# Altium schematic symbol library WPME-FDSM.SchLib: 17 symbols
Pins are listed as number, name and electrical type; pins without a type are passive.

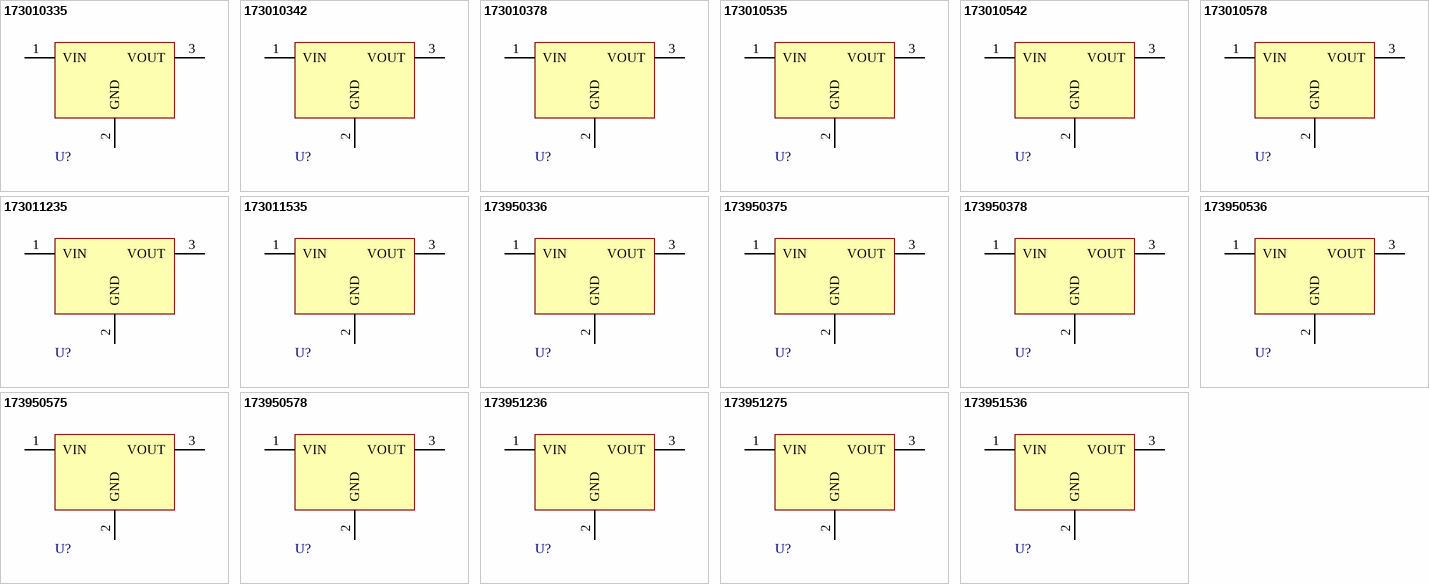
[diagram p0: symbols 173010335 to 173951536]

## 173010335
designator U?, comment 6-36Vin, 3.3Vout, 1Aout  (value not drawn)
WPME-FDSM Fixed Step Down Regulator Module, THT, SIP-3, 6-36Vin, 3.3Vout, 1Aout; Manufacturer Part Number: 173010335; Manufacturer: Wurth Elektronik; Input Voltage Min: 6V; Input Voltage Max: 36V; Output Current: 1A; Output Voltage: 3.3V; Category: Step Down Converter; Match Code: WPME-FDSM; ComponentLink1Description: Website Link; ComponentLink1URL: https://www.we-online.com/redexpert/article/173010335?ad; ComponentLink2Description: Datasheet Link; ComponentLink2URL: https://www.we-online.com/redexpert/spec/173010335?ad; Mount: Through Hole; Operating Temperature Max: 85°C; Operating Temperature Min: -40°C; Packaging: Tube; Case/Size Code: SIP-3; Length: 11.6mm; Width: 8mm; Height: 10.4mm
footprint WPME-FDSM_SIP-3_L11.6W8H10.4
pins: 1 VIN, 2 GND, 3 VOUT

## 173010342
designator U?, comment 7-42Vin, 3.3Vout, 1Aout  (value not drawn)
WPME-FDSM Fixed Step Down Regulator Module, THT, SIP-3, 7-42Vin, 3.3Vout, 1Aout; Manufacturer Part Number: 173010342; Manufacturer: Wurth Elektronik; Input Voltage Min: 7V; Input Voltage Max: 42V; Output Current: 1A; Output Voltage: 3.3V; Category: Step Down Converter; Match Code: WPME-FDSM; ComponentLink1Description: Website Link; ComponentLink1URL: https://www.we-online.com/redexpert/article/173010342?ad; ComponentLink2Description: Datasheet Link; ComponentLink2URL: https://www.we-online.com/redexpert/spec/173010342?ad; Mount: Through Hole; Operating Temperature Max: 85°C; Operating Temperature Min: -40°C; Packaging: Tube; Case/Size Code: SIP-3; Length: 11.6mm; Width: 8.5mm; Height: 10.5mm
footprint WPME-FDSM_SIP-3_L11.6W8.5H10.5
pins: 1 VIN, 2 GND, 3 VOUT

## 173010378
designator U?, comment 7-28Vin, 3.3Vout, 1Aout  (value not drawn)
WPME-FDSM Fixed Step Down Regulator Module, THT, SIP-3, 7-28Vin, 3.3Vout, 1Aout; Manufacturer Part Number: 173010378; Manufacturer: Wurth Elektronik; Input Voltage Min: 7V; Input Voltage Max: 28V; Output Current: 1A; Output Voltage: 3.3V; Category: Step Down Converter; Match Code: WPME-FDSM; ComponentLink1Description: Website Link; ComponentLink1URL: https://www.we-online.com/redexpert/article/173010378?ad; ComponentLink2Description: Datasheet Link; ComponentLink2URL: https://www.we-online.com/redexpert/spec/173010378?ad; Mount: Through Hole; Operating Temperature Max: 85°C; Operating Temperature Min: -40°C; Packaging: Tube; Case/Size Code: SIP-3; Length: 11.6mm; Width: 8.5mm; Height: 10.5mm
footprint WPME-FDSM_SIP-3_L11.6W8.5H10.5
pins: 1 VIN, 2 GND, 3 VOUT

## 173010535
designator U?, comment 8-36Vin, 5Vout, 1Aout  (value not drawn)
WPME-FDSM Fixed Step Down Regulator Module, THT, SIP-3, 8-36Vin, 5Vout, 1Aout; Manufacturer Part Number: 173010535; Manufacturer: Wurth Elektronik; Input Voltage Min: 8V; Input Voltage Max: 36V; Output Current: 1A; Output Voltage: 5V; Category: Step Down Converter; Match Code: WPME-FDSM; ComponentLink1Description: Website Link; ComponentLink1URL: https://www.we-online.com/redexpert/article/173010535?ad; ComponentLink2Description: Datasheet Link; ComponentLink2URL: https://www.we-online.com/redexpert/spec/173010535?ad; Mount: Through Hole; Operating Temperature Max: 85°C; Operating Temperature Min: -40°C; Packaging: Tube; Case/Size Code: SIP-3; Length: 11.6mm; Width: 8mm; Height: 10.4mm
footprint WPME-FDSM_SIP-3_L11.6W8H10.4
pins: 1 VIN, 2 GND, 3 VOUT

## 173010542
designator U?, comment 8-42Vin, 5Vout, 1Aout  (value not drawn)
WPME-FDSM Fixed Step Down Regulator Module, THT, SIP-3, 8-42Vin, 5Vout, 1Aout; Manufacturer Part Number: 173010542; Manufacturer: Wurth Elektronik; Input Voltage Min: 8V; Input Voltage Max: 42V; Output Current: 1A; Output Voltage: 5V; Category: Step Down Converter; Match Code: WPME-FDSM; ComponentLink1Description: Website Link; ComponentLink1URL: https://www.we-online.com/redexpert/article/173010542?ad; ComponentLink2Description: Datasheet Link; ComponentLink2URL: https://www.we-online.com/redexpert/spec/173010542?ad; Mount: Through Hole; Operating Temperature Max: 85°C; Operating Temperature Min: -40°C; Packaging: Tube; Case/Size Code: SIP-3; Length: 11.6mm; Width: 8.5mm; Height: 10.5mm
footprint WPME-FDSM_SIP-3_L11.6W8.5H10.5
pins: 1 VIN, 2 GND, 3 VOUT

## 173010578
designator U?, comment 8-28Vin, 5Vout, 1Aout  (value not drawn)
WPME-FDSM Fixed Step Down Regulator Module, THT, SIP-3, 8-28Vin, 5Vout, 1Aout; Manufacturer Part Number: 173010578; Manufacturer: Wurth Elektronik; Input Voltage Min: 8V; Input Voltage Max: 28V; Output Current: 1A; Output Voltage: 5V; Category: Step Down Converter; Match Code: WPME-FDSM; ComponentLink1Description: Website Link; ComponentLink1URL: https://www.we-online.com/redexpert/article/173010578?ad; ComponentLink2Description: Datasheet Link; ComponentLink2URL: https://www.we-online.com/redexpert/spec/173010578?ad; Mount: Through Hole; Operating Temperature Max: 85°C; Operating Temperature Min: -40°C; Packaging: Tube; Case/Size Code: SIP-3; Length: 11.6mm; Width: 8.5mm; Height: 10.5mm
footprint WPME-FDSM_SIP-3_L11.6W8.5H10.5
pins: 1 VIN, 2 GND, 3 VOUT

## 173011235
designator U?, comment 16-36Vin, 12Vout, 1Aout  (value not drawn)
WPME-FDSM Fixed Step Down Regulator Module, THT, SIP-3, 16-36Vin, 12Vout, 1Aout; Manufacturer Part Number: 173011235; Manufacturer: Wurth Elektronik; Input Voltage Min: 16V; Input Voltage Max: 36V; Output Current: 1A; Output Voltage: 12V; Category: Step Down Converter; Match Code: WPME-FDSM; ComponentLink1Description: Website Link; ComponentLink1URL: https://www.we-online.com/redexpert/article/173011235?ad; ComponentLink2Description: Datasheet Link; ComponentLink2URL: https://www.we-online.com/redexpert/spec/173011235?ad; Mount: Through Hole; Operating Temperature Max: 85°C; Operating Temperature Min: -40°C; Packaging: Tube; Case/Size Code: SIP-3; Length: 11.6mm; Width: 8mm; Height: 10.4mm
footprint WPME-FDSM_SIP-3_L11.6W8H10.4
pins: 1 VIN, 2 GND, 3 VOUT

## 173011535
designator U?, comment 20-36Vin, 15Vout, 1Aout  (value not drawn)
WPME-FDSM Fixed Step Down Regulator Module, THT, SIP-3, 20-36Vin, 15Vout, 1Aout; Manufacturer Part Number: 173011535; Manufacturer: Wurth Elektronik; Input Voltage Min: 20V; Input Voltage Max: 36V; Output Current: 1A; Output Voltage: 15V; Category: Step Down Converter; Match Code: WPME-FDSM; ComponentLink1Description: Website Link; ComponentLink1URL: https://www.we-online.com/redexpert/article/173011535?ad; ComponentLink2Description: Datasheet Link; ComponentLink2URL: https://www.we-online.com/redexpert/spec/173011535?ad; Mount: Through Hole; Operating Temperature Max: 85°C; Operating Temperature Min: -40°C; Packaging: Tube; Case/Size Code: SIP-3; Length: 11.6mm; Width: 8mm; Height: 10.4mm
footprint WPME-FDSM_SIP-3_L11.6W8H10.4
pins: 1 VIN, 2 GND, 3 VOUT

## 173950336
designator U?, comment 4.75-36Vin, 3.3Vout, 0.5Aout  (value not drawn)
WPME-FDSM Fixed Step Down Regulator Module, THT, SIP-3, 4.75-36Vin, 3.3Vout, 0.5Aout; Manufacturer Part Number: 173950336; Manufacturer: Wurth Elektronik; Input Voltage Min: 4.75V; Input Voltage Max: 36V; Output Current: 0.5A; Output Voltage: 3.3V; Category: Step Down Converter; Match Code: WPME-FDSM; ComponentLink1Description: Website Link; ComponentLink1URL: https://www.we-online.com/redexpert/article/173950336?ad; ComponentLink2Description: Datasheet Link; ComponentLink2URL: https://www.we-online.com/redexpert/spec/173950336?ad; Mount: Through Hole; Operating Temperature Max: 85°C; Operating Temperature Min: -40°C; Packaging: Tube; Case/Size Code: SIP-3; Length: 11.6mm; Width: 7.55mm; Height: 10.16mm
footprint WPME-FDSM_SIP-3_L11.6W7.55H10.16
pins: 1 VIN, 2 GND, 3 VOUT

## 173950375
designator U?, comment 9-74.5Vin, 3.3Vout, 0.5Aout  (value not drawn)
WPME-FDSM Fixed Step Down Regulator Module, THT, SIP-3, 9-74.5Vin, 3.3Vout, 0.5Aout; Manufacturer Part Number: 173950375; Manufacturer: Wurth Elektronik; Input Voltage Min: 9V; Input Voltage Max: 74.5V; Output Current: 0.5A; Output Voltage: 3.3V; Category: Step Down Converter; Match Code: WPME-FDSM; ComponentLink1Description: Website Link; ComponentLink1URL: https://www.we-online.com/redexpert/article/173950375?ad; ComponentLink2Description: Datasheet Link; ComponentLink2URL: https://www.we-online.com/redexpert/spec/173950375?ad; Mount: Through Hole; Operating Temperature Max: 85°C; Operating Temperature Min: -40°C; Packaging: Tube; Case/Size Code: SIP-3; Length: 11.5mm; Width: 9mm; Height: 17.5mm
footprint WPME-FDSM_SIP-3_L11.5W9H17.5
pins: 1 VIN, 2 GND, 3 VOUT

## 173950378
designator U?, comment 6-28Vin, 3.3Vout, 0.5Aout  (value not drawn)
WPME-FDSM Fixed Step Down Regulator Module, THT, SIP-3, 6-28Vin, 3.3Vout, 0.5Aout; Manufacturer Part Number: 173950378; Manufacturer: Wurth Elektronik; Input Voltage Min: 6V; Input Voltage Max: 28V; Output Current: 0.5A; Output Voltage: 3.3V; Category: Step Down Converter; Match Code: WPME-FDSM; ComponentLink1Description: Website Link; ComponentLink1URL: https://www.we-online.com/redexpert/article/173950378?ad; ComponentLink2Description: Datasheet Link; ComponentLink2URL: https://www.we-online.com/redexpert/spec/173950378?ad; Mount: Through Hole; Operating Temperature Max: 85°C; Operating Temperature Min: -40°C; Packaging: Tube; Case/Size Code: SIP-3; Length: 11.6mm; Width: 8.5mm; Height: 10.5mm
footprint WPME-FDSM_SIP-3_L11.6W8.5H10.5
pins: 1 VIN, 2 GND, 3 VOUT

## 173950536
designator U?, comment 6.5-36Vin, 5Vout, 0.5Aout  (value not drawn)
WPME-FDSM Fixed Step Down Regulator Module, THT, SIP-3, 6.5-36Vin, 5Vout, 0.5Aout; Manufacturer Part Number: 173950536; Manufacturer: Wurth Elektronik; Input Voltage Min: 6.5V; Input Voltage Max: 36V; Output Current: 0.5A; Output Voltage: 5V; Category: Step Down Converter; Match Code: WPME-FDSM; ComponentLink1Description: Website Link; ComponentLink1URL: https://www.we-online.com/redexpert/article/173950536?ad; ComponentLink2Description: Datasheet Link; ComponentLink2URL: https://www.we-online.com/redexpert/spec/173950536?ad; Mount: Through Hole; Operating Temperature Max: 85°C; Operating Temperature Min: -40°C; Packaging: Tube; Case/Size Code: SIP-3; Length: 11.6mm; Width: 7.55mm; Height: 10.16mm
footprint WPME-FDSM_SIP-3_L11.6W7.55H10.16
pins: 1 VIN, 2 GND, 3 VOUT

## 173950575
designator U?, comment 9-74.5Vin, 5Vout, 0.5Aout  (value not drawn)
WPME-FDSM Fixed Step Down Regulator Module, THT, SIP-3, 9-74.5Vin, 5Vout, 0.5Aout; Manufacturer Part Number: 173950575; Manufacturer: Wurth Elektronik; Input Voltage Min: 9V; Input Voltage Max: 74.5V; Output Current: 0.5A; Output Voltage: 5V; Category: Step Down Converter; Match Code: WPME-FDSM; ComponentLink1Description: Website Link; ComponentLink1URL: https://www.we-online.com/redexpert/article/173950575?ad; ComponentLink2Description: Datasheet Link; ComponentLink2URL: https://www.we-online.com/redexpert/spec/173950575?ad; Mount: Through Hole; Operating Temperature Max: 85°C; Operating Temperature Min: -40°C; Packaging: Tube; Case/Size Code: SIP-3; Length: 11.5mm; Width: 9mm; Height: 17.5mm
footprint WPME-FDSM_SIP-3_L11.5W9H17.5
pins: 1 VIN, 2 GND, 3 VOUT

## 173950578
designator U?, comment 7-28Vin, 5Vout, 0.5Aout  (value not drawn)
WPME-FDSM Fixed Step Down Regulator Module, THT, SIP-3, 7-28Vin, 5Vout, 0.5Aout; Manufacturer Part Number: 173950578; Manufacturer: Wurth Elektronik; Input Voltage Min: 7V; Input Voltage Max: 28V; Output Current: 0.5A; Output Voltage: 5V; Category: Step Down Converter; Match Code: WPME-FDSM; ComponentLink1Description: Website Link; ComponentLink1URL: https://www.we-online.com/redexpert/article/173950578?ad; ComponentLink2Description: Datasheet Link; ComponentLink2URL: https://www.we-online.com/redexpert/spec/173950578?ad; Mount: Through Hole; Operating Temperature Max: 85°C; Operating Temperature Min: -40°C; Packaging: Tube; Case/Size Code: SIP-3; Length: 11.6mm; Width: 8.5mm; Height: 10.5mm
footprint WPME-FDSM_SIP-3_L11.6W8.5H10.5
pins: 1 VIN, 2 GND, 3 VOUT

## 173951236
designator U?, comment 15-36Vin, 12Vout, 0.5Aout  (value not drawn)
WPME-FDSM Fixed Step Down Regulator Module, THT, SIP-3, 15-36Vin, 12Vout, 0.5Aout; Manufacturer Part Number: 173951236; Manufacturer: Wurth Elektronik; Input Voltage Min: 15V; Input Voltage Max: 36V; Output Current: 0.5A; Output Voltage: 12V; Category: Step Down Converter; Match Code: WPME-FDSM; ComponentLink1Description: Website Link; ComponentLink1URL: https://www.we-online.com/redexpert/article/173951236?ad; ComponentLink2Description: Datasheet Link; ComponentLink2URL: https://www.we-online.com/redexpert/spec/173951236?ad; Mount: Through Hole; Operating Temperature Max: 85°C; Operating Temperature Min: -40°C; Packaging: Tube; Case/Size Code: SIP-3; Length: 11.6mm; Width: 7.55mm; Height: 10.16mm
footprint WPME-FDSM_SIP-3_L11.6W7.55H10.16
pins: 1 VIN, 2 GND, 3 VOUT

## 173951275
designator U?, comment 18-74.5Vin, 12Vout, 0.5Aout  (value not drawn)
WPME-FDSM Fixed Step Down Regulator Module, THT, SIP-3, 18-74.5Vin, 12Vout, 0.5Aout; Manufacturer Part Number: 173951275; Manufacturer: Wurth Elektronik; Input Voltage Min: 18V; Input Voltage Max: 74.5V; Output Current: 0.5A; Output Voltage: 12V; Category: Step Down Converter; Match Code: WPME-FDSM; ComponentLink1Description: Website Link; ComponentLink1URL: https://www.we-online.com/redexpert/article/173951275?ad; ComponentLink2Description: Datasheet Link; ComponentLink2URL: https://www.we-online.com/redexpert/spec/173951275?ad; Mount: Through Hole; Operating Temperature Max: 85°C; Operating Temperature Min: -40°C; Packaging: Tube; Case/Size Code: SIP-3; Length: 11.5mm; Width: 9mm; Height: 17.5mm
footprint WPME-FDSM_SIP-3_L11.5W9H17.5
pins: 1 VIN, 2 GND, 3 VOUT

## 173951536
designator U?, comment 19-36Vin, 15Vout, 0.5Aout  (value not drawn)
WPME-FDSM Fixed Step Down Regulator Module, THT, SIP-3, 19-36Vin, 15Vout, 0.5Aout; Manufacturer Part Number: 173951536; Manufacturer: Wurth Elektronik; Input Voltage Min: 19V; Input Voltage Max: 36V; Output Current: 0.5A; Output Voltage: 15V; Category: Step Down Converter; Match Code: WPME-FDSM; ComponentLink1Description: Website Link; ComponentLink1URL: https://www.we-online.com/redexpert/article/173951536?ad; ComponentLink2Description: Datasheet Link; ComponentLink2URL: https://www.we-online.com/redexpert/spec/173951536?ad; Mount: Through Hole; Operating Temperature Max: 85°C; Operating Temperature Min: -40°C; Packaging: Tube; Case/Size Code: SIP-3; Length: 11.6mm; Width: 7.55mm; Height: 10.16mm
footprint WPME-FDSM_SIP-3_L11.6W7.55H10.16
pins: 1 VIN, 2 GND, 3 VOUT